# EAGLE library part 691334500020 (library WR-TBL Pluggable Connector)
WR-TBL Serie 3345 - 5.08 mm Double Level Vertical Male PCB Header w. Flanges & Nut Type KIND PROPERTIES Pitch 5.08 mm MATERIAL PROPERTIES Insulator Material PA66 Insulator Flammability Rating UL94 V-0 Contact Material Brass Contact Plating Tin GENERAL INFORMATION Operating Temperature -40 up to +105 °C Compliance RoHS ELECTRICAL PROPERTIES IR UL 20 A Working Voltage [UL] 300 V (AC) Withstanding Voltage [cULus] 1600 V (AC) Contact Resistance [cULus] 20 mΩ CERTIFICATION cULus Approval E315414 <https://www.we-online.com/catalog/media/o33286v209%20Family_WR-TBL_6913345000xx.jpg> Details see: https://www.we-online.com/catalog/en/TBL_5_08_3345_DOUBLE_LEVEL_VERTICAL_MALE_PCB_HEADER_W_FLANGES_AND_NUT_6913345000XX/ Updated by Ella Wu 2019-12-25 2022(C) Wurth Elektronik
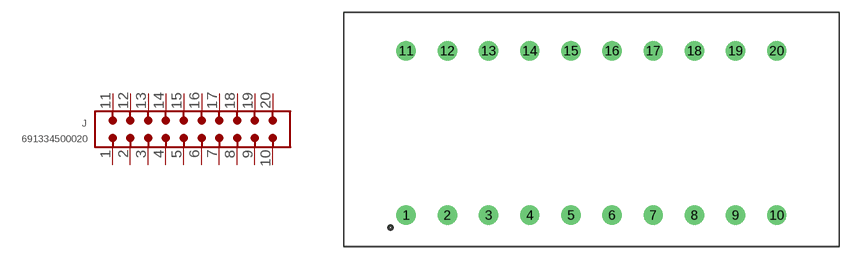
[diagram p295: symbol with the pads of 691334500020; footprint 691334500020]

Designator prefix J

## 691334500020 (DATASHEET-URL: https://www.we-online.com/redexpert/spec/691334500020?ae; IR-UL: 20A; MOUNT: THT; PART-NUMBER: 691334500020; PINS: 20; PITCH: 5.08mm; TYPE: Double Level Vertical; VALUE: 691334500020; WORKING-VOLTAGE-UL: 300V (AC))  [691334500020]
1  1  pas
2  2  pas
3  3  pas
4  4  pas
5  5  pas
6  6  pas
7  7  pas
8  8  pas
9  9  pas
10  10  pas
11  11  pas
12  12  pas
13  13  pas
14  14  pas
15  15  pas
16  16  pas
17  17  pas
18  18  pas
19  19  pas
20  20  pas

## Footprint 691334500020 (pad centres in mm)
WR-TBL Serie 3345 - 5.08 mm Double Level Vertical Male PCB Header w. Flanges & Nut Type Max Height = 22mm , Pitch 5.08mm , 16pins
drill 1.6: 1 -22.86,-10.16; 2 -17.78,-10.16; 3 -12.7,-10.16; 4 -7.62,-10.16; 5 -2.54,-10.16; 6 2.54,-10.16; 7 7.62,-10.16; 8 12.7,-10.16; 9 17.78,-10.16; 10 22.86,-10.16; 11 -22.86,10.16; 12 -17.78,10.16; 13 -12.7,10.16; 14 -7.62,10.16; 15 -2.54,10.16; 16 2.54,10.16; 17 7.62,10.16; 18 12.7,10.16; 19 17.78,10.16; 20 22.86,10.16